# EAGLE library part ADS8568_PM_64 (library SensorCape)
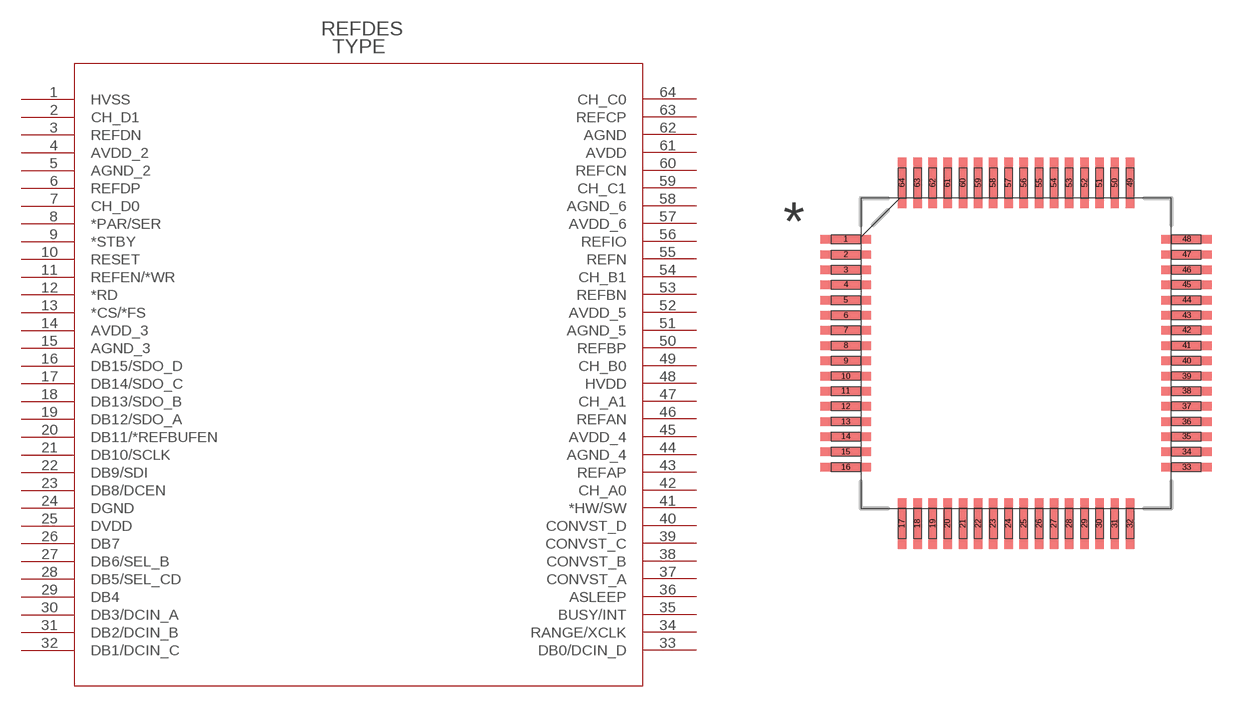
[diagram p5: symbol with the pads of PM64; footprint PM64]

Designator prefix U

## ADS8568_PM_64  [PM64]
1  HVSS  pas
2  CH_D1  pas
3  REFDN  pas
4  AVDD_2  pas
5  AGND_2  pas
6  REFDP  pas
7  CH_D0  pas
8  *PAR/SER  pas
9  *STBY  pas
10  RESET  pas
11  REFEN/*WR  pas
12  *RD  pas
13  *CS/*FS  pas
14  AVDD_3  pas
15  AGND_3  pas
16  DB15/SDO_D  pas
17  DB14/SDO_C  pas
18  DB13/SDO_B  pas
19  DB12/SDO_A  pas
20  DB11/*REFBUFEN  pas
21  DB10/SCLK  pas
22  DB9/SDI  pas
23  DB8/DCEN  pas
24  DGND  pas
25  DVDD  pas
26  DB7  pas
27  DB6/SEL_B  pas
28  DB5/SEL_CD  pas
29  DB4  pas
30  DB3/DCIN_A  pas
31  DB2/DCIN_B  pas
32  DB1/DCIN_C  pas
33  DB0/DCIN_D  pas
34  RANGE/XCLK  pas
35  BUSY/INT  pas
36  ASLEEP  pas
37  CONVST_A  pas
38  CONVST_B  pas
39  CONVST_C  pas
40  CONVST_D  pas
41  *HW/SW  pas
42  CH_A0  pas
43  REFAP  pas
44  AGND_4  pas
45  AVDD_4  pas
46  REFAN  pas
47  CH_A1  pas
48  HVDD  pas
49  CH_B0  pas
50  REFBP  pas
51  AGND_5  pas
52  AVDD_5  pas
53  REFBN  pas
54  CH_B1  pas
55  REFN  pas
56  REFIO  pas
57  AVDD_6  pas
58  AGND_6  pas
59  CH_C1  pas
60  REFCN  pas
61  AVDD  pas
62  AGND  pas
63  REFCP  pas
64  CH_C0  pas

## Footprint PM64 (pad centres in mm)
smd 1.676 x 0.279: 1 -5.613,3.759; 2 -5.613,3.251; 3 -5.613,2.743; 4 -5.613,2.261; 5 -5.613,1.753; 6 -5.613,1.245; 7 -5.613,0.762; 8 -5.613,0.254; 9 -5.613,-0.254; 10 -5.613,-0.762; 11 -5.613,-1.245; 12 -5.613,-1.753; 13 -5.613,-2.261; 14 -5.613,-2.743; 15 -5.613,-3.251; 16 -5.613,-3.759; 33 5.613,-3.759; 34 5.613,-3.251; 35 5.613,-2.743; 36 5.613,-2.261; 37 5.613,-1.753; 38 5.613,-1.245; 39 5.613,-0.762; 40 5.613,-0.254; 41 5.613,0.254; 42 5.613,0.762; 43 5.613,1.245; 44 5.613,1.753; 45 5.613,2.261; 46 5.613,2.743; 47 5.613,3.251; 48 5.613,3.759
smd 0.279 x 1.676: 17 -3.759,-5.613; 18 -3.251,-5.613; 19 -2.743,-5.613; 20 -2.261,-5.613; 21 -1.753,-5.613; 22 -1.245,-5.613; 23 -0.762,-5.613; 24 -0.254,-5.613; 25 0.254,-5.613; 26 0.762,-5.613; 27 1.245,-5.613; 28 1.753,-5.613; 29 2.261,-5.613; 30 2.743,-5.613; 31 3.251,-5.613; 32 3.759,-5.613; 49 3.759,5.613; 50 3.251,5.613; 51 2.743,5.613; 52 2.261,5.613; 53 1.753,5.613; 54 1.245,5.613; 55 0.762,5.613; 56 0.254,5.613; 57 -0.254,5.613; 58 -0.762,5.613; 59 -1.245,5.613; 60 -1.753,5.613; 61 -2.261,5.613; 62 -2.743,5.613; 63 -3.251,5.613; 64 -3.759,5.613